# Altium schematic symbol library 801-87-004-10-001101 Socket.SchLib: 1 symbol
Pins are listed as number, name and electrical type; pins without a type are passive.

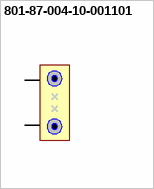
[diagram p0: symbol 801-87-004-10-001101]

## 801-87-004-10-001101
designator J?
IC REG LDO 3V3 .3A SOT25; Manufacturer Part Number: 801-87-004-10-001101; Digikey Part Number: 1212-1181-ND
footprint HDR1X4 (Connector; Header; 4 Position)
pins: 1, 4